# EAGLE library part MAX620CPN (library max620)
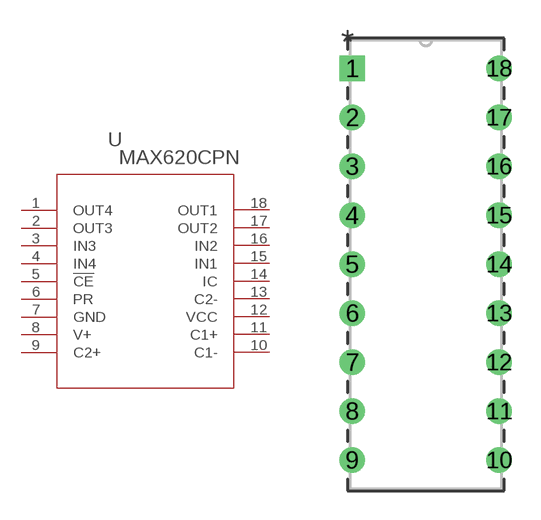
[diagram p0: symbol with the pads of 21-0043D_18; footprint 21-0043D_18]

Designator prefix U

## MAX620CPN (MANUFACTURER_PART_NUMBER: max620cpn; VENDOR: Maxim Integrated Products)  [21-0043D_18]
1  OUT4  out
2  OUT3  out
3  IN3  in
4  IN4  in
5  !CE  in
6  PR  out
7  GND  pwr
8  V+  pwr
9  C2+  pas
10  C1-  pas
11  C1+  pas
12  VCC  pwr
13  C2-  pas
14  IC  nc
15  IN1  in
16  IN2  in
17  OUT2  out
18  OUT1  out

## Footprint 21-0043D_18 (pad centres in mm)
drill 0.813 pad 1.321 square: 1 -7.62,20.32
drill 0.813 pad 1.321: 2 -7.62,17.78; 3 -7.62,15.24; 4 -7.62,12.7; 5 -7.62,10.16; 6 -7.62,7.62; 7 -7.62,5.08; 8 -7.62,2.54; 9 -7.62,0; 10 0,0; 11 0,2.54; 12 0,5.08; 13 0,7.62; 14 0,10.16; 15 0,12.7; 16 0,15.24; 17 0,17.78; 18 0,20.32